# Altium footprint library 218-2LPSTRF.PcbLib: 2 footprints
Each footprint in its own frame and in the unit in brackets; x right, y up, seen from the top. Pads: shape width x height; smd on the part's side, far side on the other; paste and mask are expansions set on the pad; w line width, h text height; cw(c..) or ccw(c..) is an arc to the next point about the centre after c.
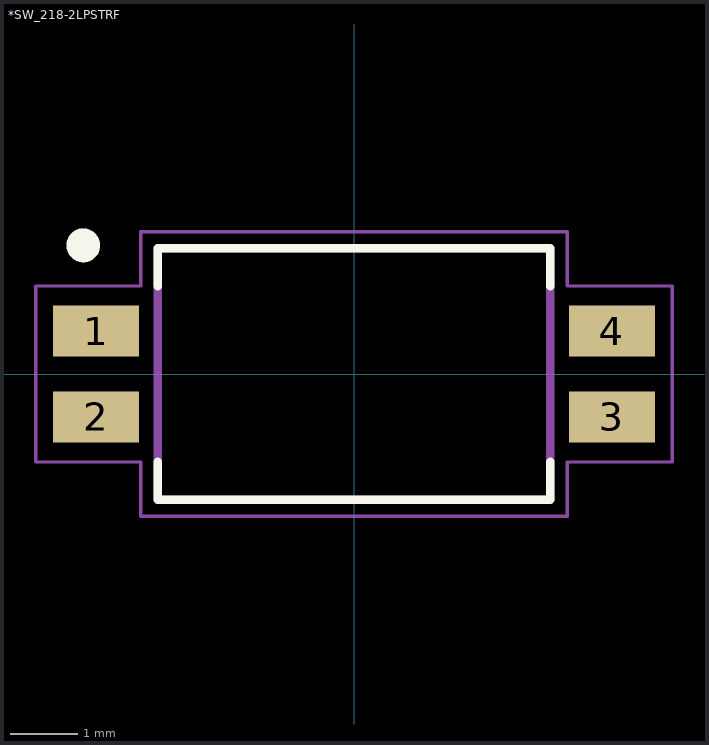
[diagram p0: the footprints below, top view; thin cyan lines are the x and y axes]

## *SW_218-2LPSTRF [mm]
pads (4):
  rect 1.27x0.76 smd: 1(-3.81,0.635) 2(-3.81,-0.635) 3(3.81,-0.635) 4(3.81,0.635)
Top Overlay:
  circle w0.3: c-4,1.9 r0.1
  lines w0.127: -2.9,-1.3 -2.9,-1.855 2.9,-1.855 2.9,-1.3 ; -2.9,1.3 -2.9,1.855 2.9,1.855 2.9,1.3
Mechanical 4:
  lines w0.127: -2.9,-1.855 2.9,-1.855 ; -2.9,-1.855 -2.9,1.855 ; -2.9,-1.855 2.9,-1.855 ; -2.9,-1.855 -2.9,1.855 ; -2.9,1.855 2.9,1.855 ; -2.9,1.855 2.9,1.855 ; 2.9,-1.855 2.9,1.855 ; 2.9,-1.855 2.9,1.855
Mechanical 16:
  lines w0.05: -4.7,-1.3 -3.15,-1.3 -3.15,-2.1 3.15,-2.1 3.15,-1.3 4.7,-1.3 4.7,1.3 3.15,1.3 3.15,2.1 -3.15,2.1 -3.15,1.3 -4.7,1.3 -4.7,-1.3

## PCBComponent_1 [mil]